# Altium footprint library XDCR_SHT30-DIS-B10KS.PcbLib: 1 footprints
Each footprint in its own frame and in the unit in brackets; x right, y up, seen from the top. Pads: shape width x height; smd on the part's side, far side on the other; paste and mask are expansions set on the pad; w line width, h text height; cw(c..) or ccw(c..) is an arc to the next point about the centre after c.
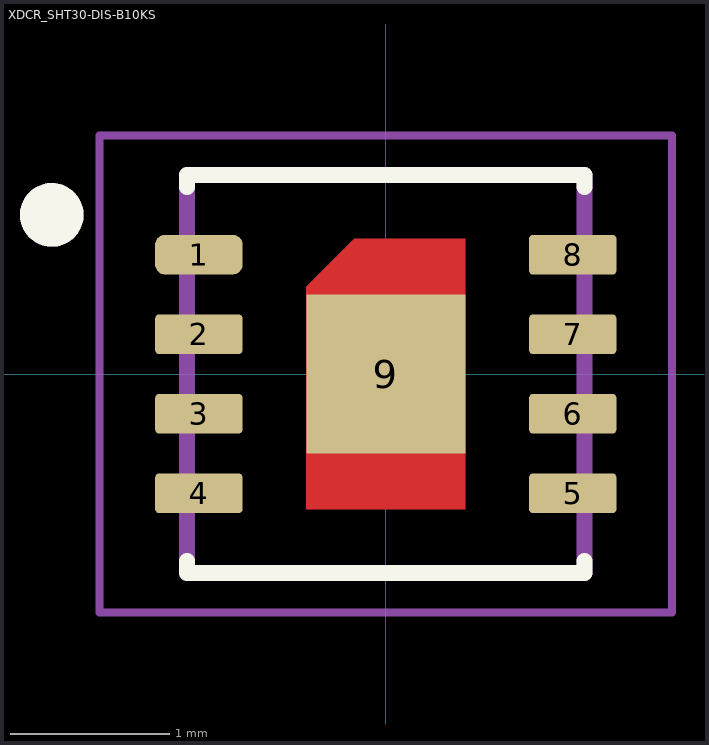
[diagram p0: the footprint, top view; thin cyan lines are the x and y axes]

## XDCR_SHT30-DIS-B10KS [mm]
pads (9):
  rrect50% 0.55x0.25 smd mask+0: 1(-1.175,0.75)
  rrect20% 0.55x0.25 smd mask+0: 2(-1.175,0.25) 3(-1.175,-0.25) 4(-1.175,-0.75) 5(1.175,-0.75) 6(1.175,-0.25) 7(1.175,0.25) 8(1.175,0.75)
  rect 1x1 smd paste-1 mask+0: 9(0,0)
Top Layer:
  region: 0.5,-0.85 -0.5,-0.85 -0.5,0.55 -0.2,0.85 0.5,0.85
Top Overlay:
  circle w0.2: c-2.1,1 r0.1
  lines w0.1: -1.25,-1.175 -1.25,-1.25 1.25,-1.25 1.25,-1.175 ; -1.25,1.175 -1.25,1.25 1.25,1.25 1.25,1.175
Top Paste:
  region: 0.4,-0.75 -0.4,-0.75 -0.4,0.45 -0.1,0.75 0.4,0.75
Top Solder:
  drawing of 9 lines, arcs and shapes, not listed
Mechanical 13:
  circle w0.2: c-2.1,1 r0.1
  lines w0.1: -1.25,-1.25 1.25,-1.25 1.25,1.25 -1.25,1.25 -1.25,-1.25
Mechanical 15:
  lines w0.05: -1.8,-1.5 1.8,-1.5 1.8,1.5 -1.8,1.5 -1.8,-1.5
3D body "SHT30-DIS-B10KS.STEP": height 0.9, standoff 0, extent -1.251,-1.251 1.251,1.251